# EAGLE library part MC14515BDWR2G (library MC14515BDWR2G)
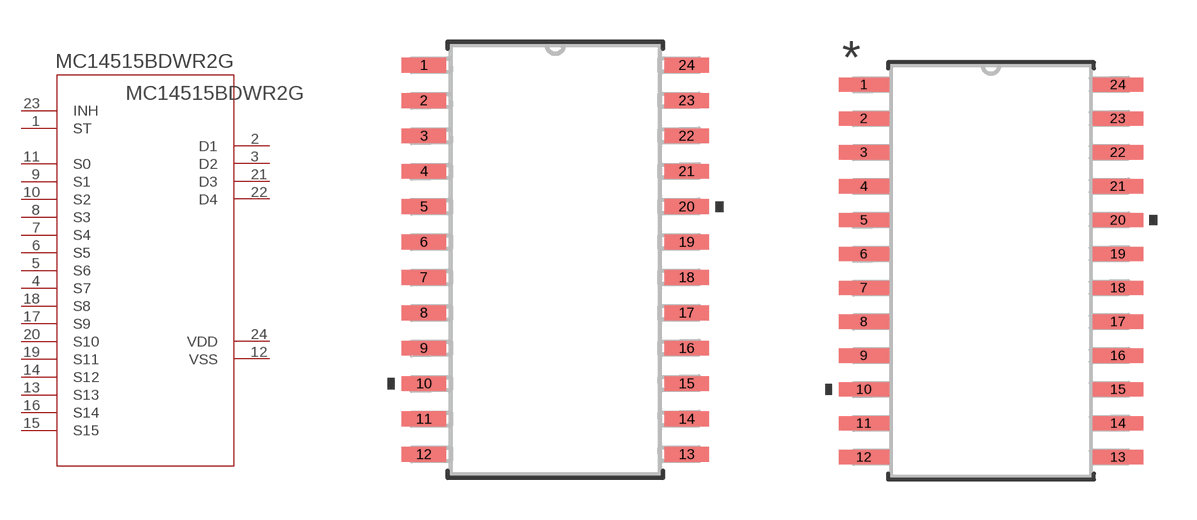
[diagram p0: symbol with the pads of SOIC-24WB_ONS; footprints SOIC-24WB_ONS, SOIC-24WB_ONS-M]

Designator prefix U

## MC14515BDWR2G (COPYRIGHT: Copyright (C) 2021 Ultra Librarian. All rights reserved.; DIGI-KEY_PART_NUMBER_1: 2156-MC14515BDWR2G-OS-ND; DIGI-KEY_PART_NUMBER_2: MC14515BDWR2G-ND; DIGI-KEY_PART_NUMBER_3: MC14515BDWR2GOSCT-ND; DIGI-KEY_PART_NUMBER_4: MC14515BDWR2GOSDKR-ND; DIGI-KEY_PART_NUMBER_5: MC14515BDWR2GOSTR-ND; MANUFACTURER_PART_NUMBER: MC14515BDWR2G; MFR_NAME: ON Semiconductor)  [SOIC-24WB_ONS]
1  ST  pas
2  D1  pas
3  D2  pas
4  S7  pas
5  S6  pas
6  S5  pas
7  S4  pas
8  S3  pas
9  S1  pas
10  S2  pas
11  S0  pas
12  VSS  pwr
13  S13  pas
14  S12  pas
15  S15  pas
16  S14  pas
17  S9  pas
18  S8  pas
19  S11  pas
20  S10  pas
21  D3  pas
22  D4  pas
23  INH  pas
24  VDD  pwr

## MC14515BDWR2GSOIC-24WB_ONS-M (COPYRIGHT: Copyright (C) 2021 Ultra Librarian. All rights reserved.; DIGI-KEY_PART_NUMBER_1: 2156-MC14515BDWR2G-OS-ND; DIGI-KEY_PART_NUMBER_2: MC14515BDWR2G-ND; DIGI-KEY_PART_NUMBER_3: MC14515BDWR2GOSCT-ND; DIGI-KEY_PART_NUMBER_4: MC14515BDWR2GOSDKR-ND; DIGI-KEY_PART_NUMBER_5: MC14515BDWR2GOSTR-ND; MANUFACTURER_PART_NUMBER: MC14515BDWR2G; MFR_NAME: ON Semiconductor)  [SOIC-24WB_ONS-M]
1  ST  pas
2  D1  pas
3  D2  pas
4  S7  pas
5  S6  pas
6  S5  pas
7  S4  pas
8  S3  pas
9  S1  pas
10  S2  pas
11  S0  pas
13  S13  pas
14  S12  pas
15  S15  pas
16  S14  pas
17  S9  pas
18  S8  pas
19  S11  pas
20  S10  pas
21  D3  pas
22  D4  pas
23  INH  pas

## MC14515BDWR2GSOIC-24WB_ONS-L (COPYRIGHT: Copyright (C) 2021 Ultra Librarian. All rights reserved.; DIGI-KEY_PART_NUMBER_1: 2156-MC14515BDWR2G-OS-ND; DIGI-KEY_PART_NUMBER_2: MC14515BDWR2G-ND; DIGI-KEY_PART_NUMBER_3: MC14515BDWR2GOSCT-ND; DIGI-KEY_PART_NUMBER_4: MC14515BDWR2GOSDKR-ND; DIGI-KEY_PART_NUMBER_5: MC14515BDWR2GOSTR-ND; MANUFACTURER_PART_NUMBER: MC14515BDWR2G; MFR_NAME: ON Semiconductor)  [SOIC-24WB_ONS-L]
Pads as for SOIC-24WB_ONS-M

## Footprint SOIC-24WB_ONS (pad centres in mm)
smd 1.589 x 0.533: 1 -4.712,6.985; 2 -4.712,5.715; 3 -4.712,4.445; 4 -4.712,3.175; 5 -4.712,1.905; 6 -4.712,0.635; 7 -4.712,-0.635; 8 -4.712,-1.905; 9 -4.712,-3.175; 10 -4.712,-4.445; 11 -4.712,-5.715; 12 -4.712,-6.985; 13 4.712,-6.985; 14 4.712,-5.715; 15 4.712,-4.445; 16 4.712,-3.175; 17 4.712,-1.905; 18 4.712,-0.635; 19 4.712,0.635; 20 4.712,1.905; 21 4.712,3.175; 22 4.712,4.445; 23 4.712,5.715; 24 4.712,6.985

## Footprint SOIC-24WB_ONS-M (pad centres in mm)
smd 1.889 x 0.533: 1 -4.762,6.985; 2 -4.762,5.715; 3 -4.762,4.445; 4 -4.762,3.175; 5 -4.762,1.905; 6 -4.762,0.635; 7 -4.762,-0.635; 8 -4.762,-1.905; 9 -4.762,-3.175; 10 -4.762,-4.445; 11 -4.762,-5.715; 12 -4.762,-6.985; 13 4.762,-6.985; 14 4.762,-5.715; 15 4.762,-4.445; 16 4.762,-3.175; 17 4.762,-1.905; 18 4.762,-0.635; 19 4.762,0.635; 20 4.762,1.905; 21 4.762,3.175; 22 4.762,4.445; 23 4.762,5.715; 24 4.762,6.985

## Footprint SOIC-24WB_ONS-L (pad centres in mm)
smd 1.289 x 0.483: 1 -4.662,6.985; 2 -4.662,5.715; 3 -4.662,4.445; 4 -4.662,3.175; 5 -4.662,1.905; 6 -4.662,0.635; 7 -4.662,-0.635; 8 -4.662,-1.905; 9 -4.662,-3.175; 10 -4.662,-4.445; 11 -4.662,-5.715; 12 -4.662,-6.985; 13 4.662,-6.985; 14 4.662,-5.715; 15 4.662,-4.445; 16 4.662,-3.175; 17 4.662,-1.905; 18 4.662,-0.635; 19 4.662,0.635; 20 4.662,1.905; 21 4.662,3.175; 22 4.662,4.445; 23 4.662,5.715; 24 4.662,6.985